# Altium footprint library AG.Old.PcbLib: 35 footprints (part 2 of 3)
Each footprint in its own frame and in the unit in brackets; x right, y up, seen from the top. Pads: shape width x height; smd on the part's side, far side on the other; paste and mask are expansions set on the pad; w line width, h text height; cw(c..) or ccw(c..) is an arc to the next point about the centre after c.
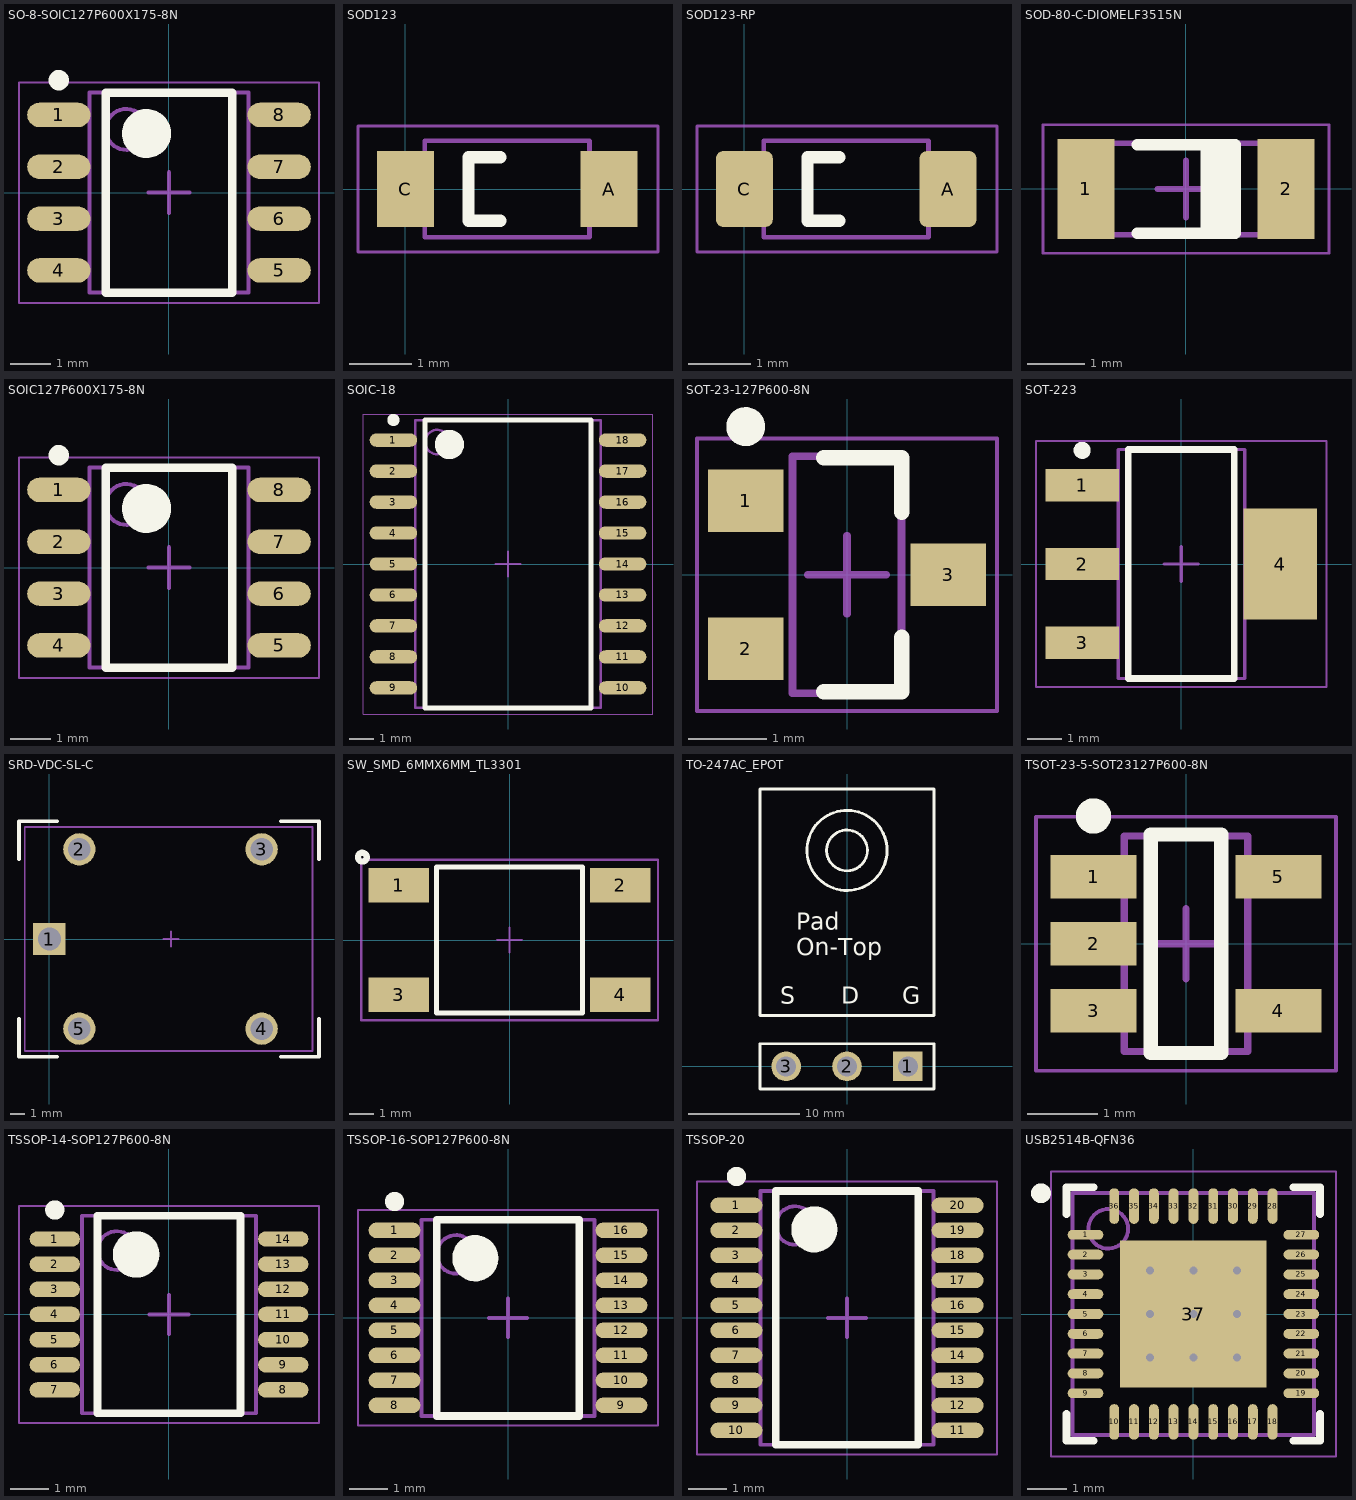
[diagram p1: the footprints below, top view; thin cyan lines are the x and y axes]

## SO-8-SOIC127P600X175-8N [mm]
height 1.75
pads (8):
  oval 1.55x0.6 smd: 1(-2.7,1.905) 2(-2.7,0.635) 3(-2.7,-0.635) 4(-2.7,-1.905) 5(2.7,-1.905) 6(2.7,-0.635) 7(2.7,0.635) 8(2.7,1.905)
Top Overlay:
  circle w0.25: c-2.7,2.755 r0.125
  circle w0.6: c-0.55,1.45 r0.3
  lines w0.2: -1.55,-2.45 -1.55,2.45 1.55,2.45 1.55,-2.45 -1.55,-2.45
Mechanical 13:
  circle w0.1: c-1.05,1.55 r0.5
  lines w0.1: -1.95,-2.45 -1.95,2.45 1.95,2.45 1.95,-2.45 -1.95,-2.45
Mechanical 15:
  lines w0.05: -3.675,-2.7 -3.675,2.7 3.675,2.7 3.675,-2.7 -3.675,-2.7
  lines w0.1: -0.5,0 0.5,0 ; 0,-0.5 0,0.5
3D body: height 1.75, standoff 0.25, extent -1.95,-2.45 1.95,2.45

## SOD123 [mil] "Generic SOD-123 Diode"
height 53.15
pads (2):
  rect 36x48 smd: A(129,0) C(0,0)
Top Overlay:
  lines w7.87: 60,-20 40,-20 40,20 60,20
Mechanical 13:
  lines w3: 12.34,-30.51 116.67,-30.51 116.67,30.51 12.34,30.51 12.34,-30.51
Mechanical 15:
  lines w2: -30,-40 -30,40 160,40 160,-40 -30,-40

## SOD123-RP [mil] "Generic SOD-123 Diode (Rounded Pads)"
height 53.15
pads (2):
  rrect25% 36x48 smd: A(129,0) C(0,0)
Top Overlay:
  lines w7.87: 60,-20 40,-20 40,20 60,20
Mechanical 13:
  lines w3: 12.34,-30.51 12.34,30.51 116.67,30.51 116.67,-30.51 12.34,-30.51
Mechanical 15:
  lines w2: -30,-40 160,-40 160,40 -30,40 -30,-40

## SOD-80-C-DIOMELF3515N [mm]
height 1.6
pads (2):
  rect 1x1.75 smd: 1(-1.75,0) 2(1.75,0)
Top Overlay:
  rectangle: 0.254,-0.788 0.804,0.762
  lines w0.2: -0.85,-0.775 0.85,-0.775 ; -0.85,0.775 0.85,0.775 ; 0.864,-0.775 0.864,0.775
Mechanical 13:
  lines w0.1: -1.85,-0.8 -1.85,0.8 1.85,0.8 1.85,-0.8 -1.85,-0.8
Mechanical 15:
  lines w0.05: -2.5,-1.125 -2.5,1.125 2.5,1.125 2.5,-1.125 -2.5,-1.125
  lines w0.1: -0.5,0 0.5,0 ; 0,-0.5 0,0.5
3D body "SOD-80-C-DIOMELF3515N.step": height 1.53, standoff 0.01, extent -1.75,-0.761 1.75,0.761

## SOIC127P600X175-8N [mm] "SOIC, 8-Leads, Body 4.90x3.90mm, Pitch 1.27mm, IPC Medium Density"
height 1.75
pads (8):
  oval 1.55x0.6 smd: 1(-2.7,1.905) 2(-2.7,0.635) 3(-2.7,-0.635) 4(-2.7,-1.905) 5(2.7,-1.905) 6(2.7,-0.635) 7(2.7,0.635) 8(2.7,1.905)
Top Overlay:
  circle w0.6: c-0.55,1.45 r0.3
  circle w0.25: c-2.7,2.755 r0.125
  lines w0.2: -1.55,-2.45 1.55,-2.45 1.55,2.45 -1.55,2.45 -1.55,-2.45
Mechanical 13:
  circle w0.1: c-1.05,1.55 r0.5
  lines w0.1: -1.95,-2.45 1.95,-2.45 1.95,2.45 -1.95,2.45 -1.95,-2.45
Mechanical 15:
  lines w0.05: -3.675,-2.7 3.675,-2.7 3.675,2.7 -3.675,2.7 -3.675,-2.7
  lines w0.1: -0.5,0 0.5,0 ; 0,-0.5 0,0.5
3D body: height 1.75, standoff 0.25, extent -1.95,-2.45 1.95,2.45

## SOIC-18 [mm]
height 2.65
pads (18):
  oval 1.95x0.55 smd: 1(-4.7,5.08) 2(-4.7,3.81) 3(-4.7,2.54) 4(-4.7,1.27) 5(-4.7,0) 6(-4.7,-1.27) 7(-4.7,-2.54) 8(-4.7,-3.81) 9(-4.7,-5.08) 10(4.7,-5.08) 11(4.7,-3.81) 12(4.7,-2.54) 13(4.7,-1.27) 14(4.7,0) 15(4.7,1.27) 16(4.7,2.54) 17(4.7,3.81) 18(4.7,5.08)
Top Overlay:
  circle w0.25: c-4.7,5.905 r0.125
  circle w0.6: c-2.4,4.9 r0.3
  lines w0.2: -3.4,-5.9 -3.4,5.9 3.4,5.9 3.4,-5.9 -3.4,-5.9
Mechanical 13:
  circle w0.1: c-2.9,5 r0.5
  lines w0.1: -3.8,-5.9 -3.8,5.9 3.8,5.9 3.8,-5.9 -3.8,-5.9
Mechanical 15:
  lines w0.05: -5.925,-6.15 -5.925,6.15 5.925,6.15 5.925,-6.15 -5.925,-6.15
  lines w0.1: -0.5,0 0.5,0 ; 0,-0.5 0,0.5
3D body "SOIC-18.step": height 2.65, standoff 0, extent -5.15,-5.9 5.15,5.9

## SOT-23-127P600-8N [mm]
height 1.12
pads (3):
  rect 0.97x0.8 smd: 1(-1.3,0.95) 2(-1.3,-0.95) 3(1.3,0)
Top Overlay:
  circle w0.25: c-1.3,1.9 r0.125
  lines w0.2: -0.3,-1.5 0.7,-1.5 0.7,-0.8 ; -0.3,1.5 0.7,1.5 0.7,0.8
Mechanical 13:
  lines w0.1: -0.7,-1.52 -0.7,1.52 0.7,1.52 0.7,-1.52 -0.7,-1.52
Mechanical 15:
  lines w0.05: -1.925,-1.75 -1.925,1.75 1.925,1.75 1.925,-1.75 -1.925,-1.75
  lines w0.1: -0.5,0 0.5,0 ; 0,-0.5 0,0.5
3D body "SOT-23-127P600-8N.step": height 1.12, standoff 0, extent -1.32,-1.52 1.32,1.52

## SOT-223 [mm] "SOT-223: 4 Leads; Tab Not Connected"
height 1.8
pads (4):
  rect 2.15x0.95 smd: 1(-2.9,2.3) 2(-2.9,0) 3(-2.9,-2.3)
  rect 2.15x3.25 smd: 4(2.9,0)
Top Overlay:
  circle w0.25: c-2.9,3.325 r0.125
  lines w0.2: -1.55,-3.35 1.55,-3.35 1.55,3.35 -1.55,3.35 -1.55,-3.35
Mechanical 13:
  lines w0.1: -1.85,-3.35 1.85,-3.35 1.85,3.35 -1.85,3.35 -1.85,-3.35
Mechanical 15:
  lines w0.05: -4.25,-3.6 4.25,-3.6 4.25,3.6 -4.25,3.6 -4.25,-3.6
  lines w0.1: -0.5,0 0.5,0 ; 0,-0.5 0,0.5
3D body "SOT-223_127P600-8N.step": height 1.8, standoff 0, extent -3.5,-3.35 3.5,3.35

## SRD-VDC-SL-C [mil] "RELAY GEN PURPOSE SPDT (19mm x 15mm x 15mm)"
height 602
pads (5):
  rect 85x85 hole 60: 1(0,0)
  round 85 hole 60: 2(78.74,236.22) 3(559.06,236.22) 4(559.06,-236.22) 5(78.74,-236.22)
Top Overlay:
  lines w10: -80,-210 -80,-310 20,-310 ; -80,210 -80,310 20,310 ; 610,-310 710,-310 710,-210 ; 610,310 710,310 710,210
Mechanical 15:
  lines w5: 300,0 340,0 ; 320,-20 320,20 ; -64.94,-295.22 693.06,-295.22 693.06,295.22 -64.94,295.22 -64.94,-295.22
3D body: height 602, standoff 1, extent -64.94,-295.22 693.06,295.22

## SW_SMD_6MMX6MM_TL3301 [mm]
pads (4):
  rect 2.5x1.4 smd: 1(-4.55,2.25) 2(4.55,2.25) 3(-4.55,-2.25) 4(4.55,-2.25)
Top Overlay:
  circle w0.254: c-6.045,3.404 r0.18
  lines w0.2: -3,-3 -3,3 3,3 3,-3 -3,-3
Mechanical 11:
  lines w0.1: -6.1,-3.3 -6.1,3.3 6.1,3.3 6.1,-3.3 -6.1,-3.3
  text ".designator" at -2.6,-0.4 h1
Mechanical 15:
  lines w0.1: -0.5,0 0.5,0 ; 0,-0.5 0,0.5 ; -6.1,-3.3 6.1,-3.3 6.1,3.3 -6.1,3.3 -6.1,-3.3
3D body "TL3301AFxxxxG.stp": height 5.12, standoff 0.02, extent -5,-3 5,3

## TO-247AC_EPOT [mil] "TO-247AC Exposed Pad On-Top (Horizontal)"
height 210
pads (3):
  rect 105x105 hole 70: 1(215,0)
  round 105 hole 70: 2(0,0) 3(-215,0)
Top Overlay:
  circle w10: c0,763 r141.5
  circle w10: c0,763 r72
  lines w10: -307,-80 307,-80 307,80 -307,80 -307,-80 ; -307,180 307,180 307,980 -307,980 -307,180
  text "Pad / On-Top" at -180,392 h60
  text "G" at 195,221 h60
  text "D" at -20,221 h60
  text "S" at -235,221 h60

## TSOT-23-5-SOT23127P600-8N [mm] "ADR391"
height 1
pads (5):
  rect 1.22x0.62 smd: 1(-1.31,0.95) 2(-1.31,0) 3(-1.31,-0.95) 4(1.31,-0.95) 5(1.31,0.95)
Top Overlay:
  circle w0.25: c-1.31,1.81 r0.125
  lines w0.2: -0.5,-1.55 0.5,-1.55 0.5,1.55 -0.5,1.55 -0.5,-1.55
Mechanical 13:
  lines w0.1: -0.875,-1.525 -0.875,1.525 0.875,1.525 0.875,-1.525 -0.875,-1.525
Mechanical 15:
  lines w0.05: -2.125,-1.8 -2.125,1.8 2.125,1.8 2.125,-1.8 -2.125,-1.8
  lines w0.1: -0.5,0 0.5,0 ; 0,-0.5 0,0.5
3D body "TSOT-23-5-SOT23127P600-8N.step": height 1, standoff 0, extent -1.525,-1.525 1.525,1.525

## TSSOP-14-SOP127P600-8N [mm] "TSSOP-14"
height 1.2
pads (14):
  oval 1.3x0.4 smd: 1(-2.95,1.95) 2(-2.95,1.3) 3(-2.95,0.65) 4(-2.95,0) 5(-2.95,-0.65) 6(-2.95,-1.3) 7(-2.95,-1.95) 8(2.95,-1.95) 9(2.95,-1.3) 10(2.95,-0.65) 11(2.95,0) 12(2.95,0.65) 13(2.95,1.3) 14(2.95,1.95)
Top Overlay:
  circle w0.6: c-0.85,1.55 r0.3
  circle w0.25: c-2.95,2.7 r0.125
  lines w0.2: -1.85,-2.55 1.85,-2.55 1.85,2.55 -1.85,2.55 -1.85,-2.55
Mechanical 13:
  circle w0.1: c-1.35,1.65 r0.5
  lines w0.1: -2.25,-2.55 2.25,-2.55 2.25,2.55 -2.25,2.55 -2.25,-2.55
Mechanical 15:
  lines w0.05: -3.875,-2.8 3.875,-2.8 3.875,2.8 -3.875,2.8 -3.875,-2.8
  lines w0.1: -0.5,0 0.5,0 ; 0,-0.5 0,0.5
3D body "TSSOP-14-SOP127P600-8N.step": height 1.2, standoff 0, extent -3.2,-2.55 3.2,2.55

## TSSOP-16-SOP127P600-8N [mm] "TSSOP-16"
height 1.2
pads (16):
  oval 1.35x0.4 smd: 1(-2.95,2.275) 2(-2.95,1.625) 3(-2.95,0.975) 4(-2.95,0.325) 5(-2.95,-0.325) 6(-2.95,-0.975) 7(-2.95,-1.625) 8(-2.95,-2.275) 9(2.95,-2.275) 10(2.95,-1.625) 11(2.95,-0.975) 12(2.95,-0.325) 13(2.95,0.325) 14(2.95,0.975) 15(2.95,1.625) 16(2.95,2.275)
Top Overlay:
  circle w0.6: c-0.85,1.55 r0.3
  circle w0.25: c-2.95,3.025 r0.125
  lines w0.2: -1.85,-2.55 1.85,-2.55 1.85,2.55 -1.85,2.55 -1.85,-2.55
Mechanical 13:
  circle w0.1: c-1.35,1.65 r0.5
  lines w0.1: -2.25,-2.55 2.25,-2.55 2.25,2.55 -2.25,2.55 -2.25,-2.55
Mechanical 15:
  lines w0.05: -3.9,-2.8 3.9,-2.8 3.9,2.8 -3.9,2.8 -3.9,-2.8
  lines w0.1: -0.5,0 0.5,0 ; 0,-0.5 0,0.5
3D body "TSSOP-16-SOP127P600-8N.step": height 1.2, standoff 0, extent -3.2,-2.55 3.2,2.55

## TSSOP-20 [mm] "STM32F07x: Dimensions from datasheet"
height 1.2
pads (20):
  oval 1.35x0.4 smd: 1(-2.875,2.925) 2(-2.875,2.275) 3(-2.875,1.625) 4(-2.875,0.975) 5(-2.875,0.325) 6(-2.875,-0.325) 7(-2.875,-0.975) 8(-2.875,-1.625) 9(-2.875,-2.275) 10(-2.875,-2.925) 11(2.875,-2.925) 12(2.875,-2.275) 13(2.875,-1.625) 14(2.875,-0.975) 15(2.875,-0.325) 16(2.875,0.325) 17(2.875,0.975) 18(2.875,1.625) 19(2.875,2.275) 20(2.875,2.925)
Top Overlay:
  circle w0.25: c-2.875,3.675 r0.125
  circle w0.6: c-0.85,2.3 r0.3
  lines w0.2: -1.85,-3.3 -1.85,3.3 1.85,3.3 1.85,-3.3 -1.85,-3.3
Mechanical 13:
  circle w0.1: c-1.35,2.4 r0.5
  lines w0.1: -2.25,-3.3 -2.25,3.3 2.25,3.3 2.25,-3.3 -2.25,-3.3
Mechanical 15:
  lines w0.05: -3.9,-3.55 -3.9,3.55 3.9,3.55 3.9,-3.55 -3.9,-3.55
  lines w0.1: -0.5,0 0.5,0 ; 0,-0.5 0,0.5

## USB2514B-QFN36 [mm] "QFN-36"
height 0.9
pads (37):
  oval 0.9x0.25 smd: 1(-2.725,2) 2(-2.725,1.5) 3(-2.725,1) 4(-2.725,0.5) 5(-2.725,0) 6(-2.725,-0.5) 7(-2.725,-1) 8(-2.725,-1.5) 9(-2.725,-2) 19(2.725,-2) 20(2.725,-1.5) 21(2.725,-1) 22(2.725,-0.5) 23(2.725,0) 24(2.725,0.5) 25(2.725,1) 26(2.725,1.5) 27(2.725,2)
  oval 0.25x0.9 smd: 10(-2,-2.725) 11(-1.5,-2.725) 12(-1,-2.725) 13(-0.5,-2.725) 14(0,-2.725) 15(0.5,-2.725) 16(1,-2.725) 17(1.5,-2.725) 18(2,-2.725) 28(2,2.725) 29(1.5,2.725) 30(1,2.725) 31(0.5,2.725) 32(0,2.725) 33(-0.5,2.725) 34(-1,2.725) 35(-1.5,2.725) 36(-2,2.725)
  rect 3.7x3.7 smd: 37(0,0)
via 1.1,-1.1 diameter 0.5 hole 0.2
via 0,-1.1 diameter 0.5 hole 0.2
via -1.1,-1.1 diameter 0.5 hole 0.2
via 1.1,0 diameter 0.5 hole 0.2
via 0,0 diameter 0.5 hole 0.2
via -1.1,0 diameter 0.5 hole 0.2
via 1.1,1.1 diameter 0.5 hole 0.2
via 0,1.1 diameter 0.5 hole 0.2
via -1.1,1.1 diameter 0.5 hole 0.2
Top Overlay:
  circle w0.25: c-3.85,3.05 r0.125
  lines w0.2: -3.2,-2.525 -3.2,-3.2 -2.525,-3.2 ; -3.2,2.525 -3.2,3.2 -2.525,3.2 ; 2.525,-3.2 3.2,-3.2 3.2,-2.525 ; 2.525,3.2 3.2,3.2 3.2,2.525
Mechanical 13:
  circle w0.1: c-2.15,2.15 r0.5
  lines w0.1: -3.05,-3.05 3.05,-3.05 3.05,3.05 -3.05,3.05 -3.05,-3.05
Mechanical 15:
  lines w0.05: -3.6,-3.6 3.6,-3.6 3.6,3.6 -3.6,3.6 -3.6,-3.6
  lines w0.1: -0.5,0 0.5,0 ; 0,-0.5 0,0.5
3D body "USB2514B-QFN36-2.step": height 0.9, standoff 0, extent -3.1,-3.1 3.1,3.1